# Altium schematic symbol library AC(DC)-DC modul.SchLib: 6 symbols
Pins are listed as number, name and electrical type; pins without a type are passive.

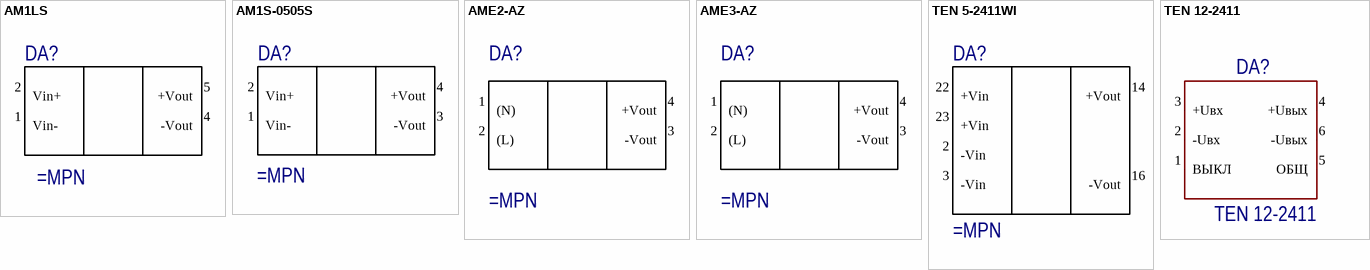
[diagram p0: symbols AM1LS to TEN 12-2411]

## AM1LS
designator DA?
pins: 1 Vin- (power) "VCC", 2 Vin+ (power) "IN GND", 4 -Vout (power), 5 +Vout (power), 9 NC (power) hidden, 11 NC (power) hidden

## AM1S-0505S
designator DA?
pins: 1 Vin- (power) "VCC", 2 Vin+ (power) "IN GND", 3 -Vout (power), 4 +Vout (power), 9 NC (power) hidden, 11 NC (power) hidden

## AME2-AZ
designator DA?
AC/DC, 2W, 24V/0,083A
pins: 1 (N) (power) "VCC", 2 (L) (power) "IN GND", 3 -Vout (power), 4 +Vout (power), 9 NC (power) hidden, 11 NC (power) hidden

## AME3-AZ
designator DA?
pins: 1 (N) (power) "VCC", 2 (L) (power) "IN GND", 3 -Vout (power), 4 +Vout (power), 9 NC (power) hidden, 11 NC (power) hidden

## TEN 5-2411WI
designator DA?
pins: 2 -Vin (power) "IN GND", 3 -Vin (power) "IN GND", 9 NC (power) hidden, 11 NC (power) hidden, 14 +Vout (power), 16 -Vout (power), 22 +Vin (power) "VCC", 23 +Vin (power) "VCC"

## TEN 12-2411
designator DA?
pins: 1 ВЫКЛ, 2 -Uвх, 3 +Uвх, 4 +Uвых, 5 ОБЩ, 6 -Uвых